# Altium schematic symbol library 器件库.SchLib: 6 symbols
Pins are listed as number, name and electrical type; pins without a type are passive.

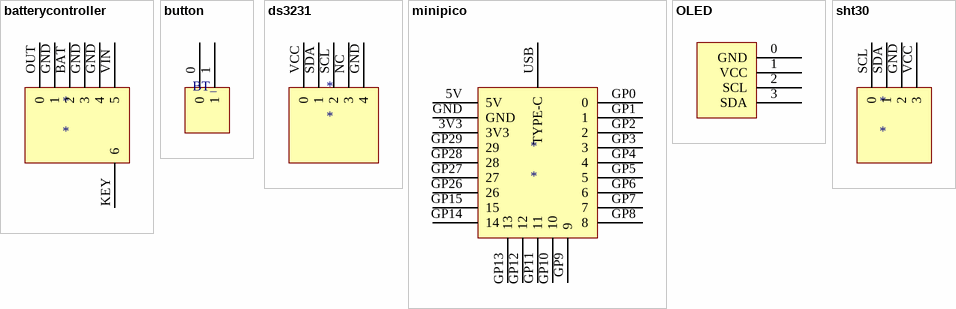
[diagram p0: symbols batterycontroller to sht30]

## batterycontroller
designator *
pins: BAT 2, GND 1, GND 3, GND 4, KEY 6, OUT 0, VIN 5

## button
designator BT_  (value not drawn)
pins: 0, 1

## ds3231
designator *
pins: GND 4, NC 3, SCL 2, SDA 1, VCC 0

## minipico
designator *
pins: 3V3, 5V, GND, GP0 0, GP1 1, GP2 2, GP3 3, GP4 4, GP5 5, GP6 6, GP7 7, GP8 8, GP9 9, GP10 10, GP11 11, GP12 12, GP13 13, GP14 14, GP15 15, GP26 26, GP27 27, GP28 28, GP29 29, USB TYPE-C

## OLED
designator *  (value not drawn)
pins: 0 GND, 1 VCC, 2 SCL, 3 SDA

## sht30
designator *
pins: GND 2, SCL 0, SDA 1, VCC 3